# EAGLE library part NUCLEO-144 (library Nucleo-144)
Header footprint of an STM32 Nucleo 144 pin board for use in making shields for the board.
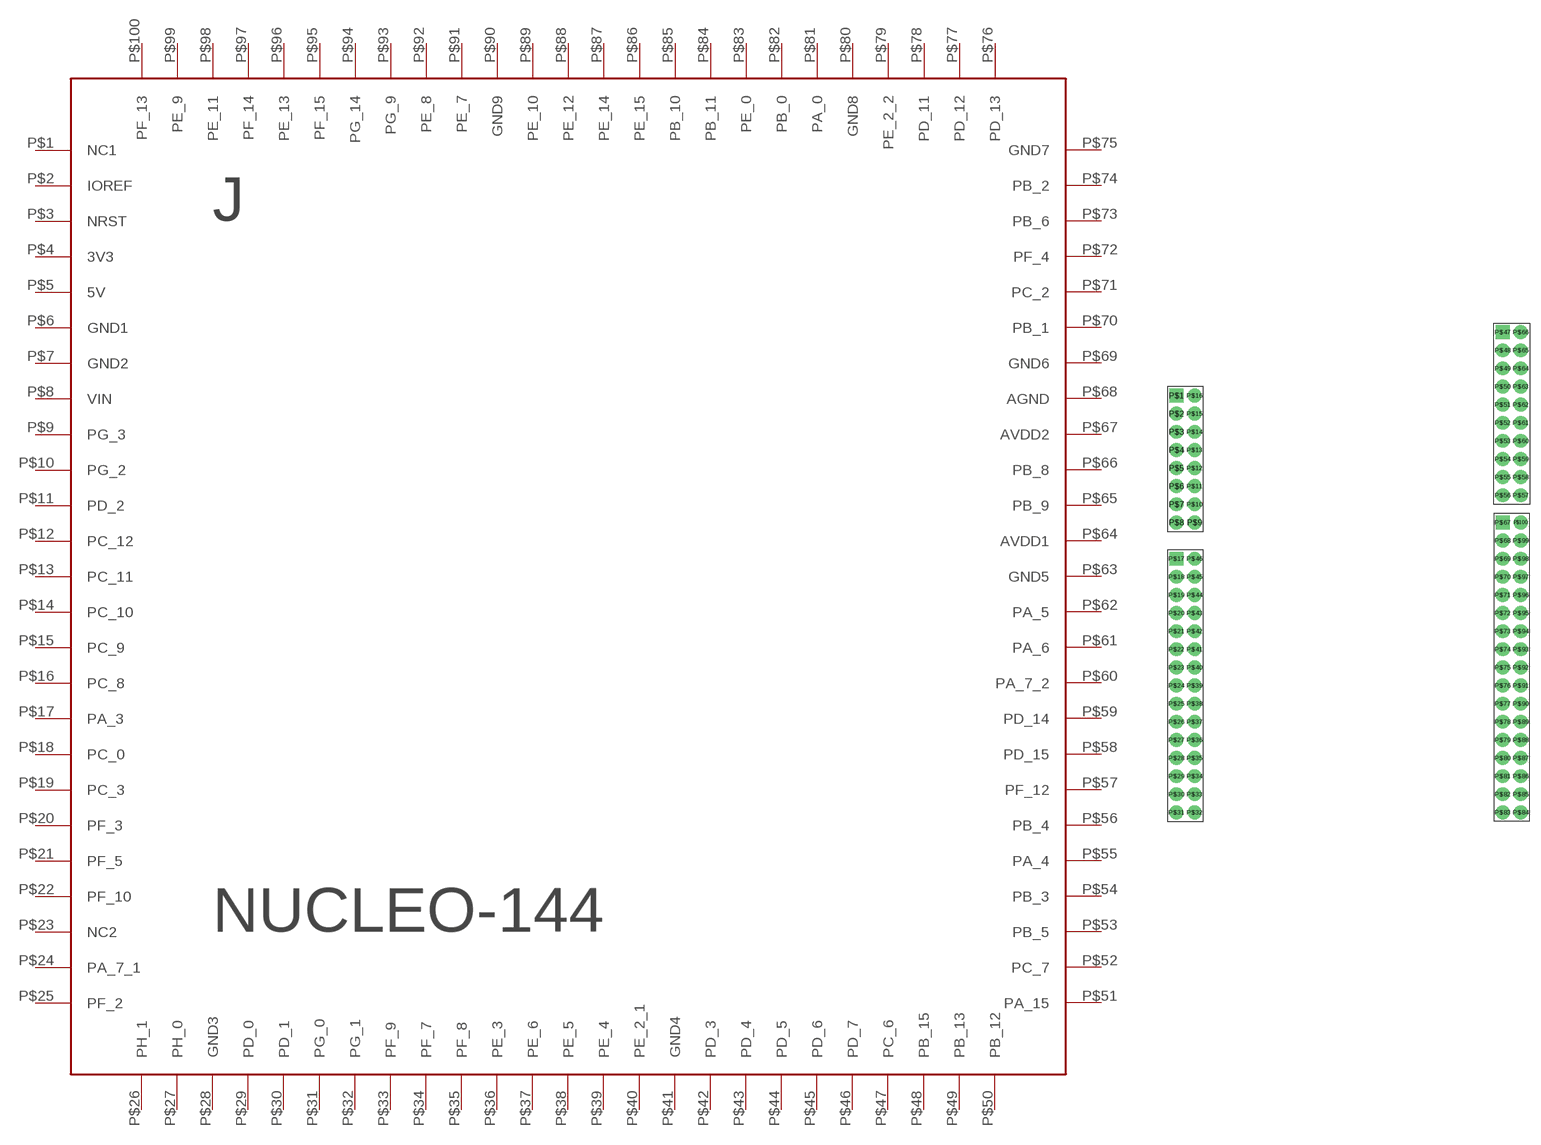
[diagram p0: symbol with the pads of NUCLEO-144; footprint NUCLEO-144]

Designator prefix J

## NUCLEO-144  [NUCLEO-144]
P$1  NC1
P$2  IOREF
P$3  NRST
P$4  3V3
P$5  5V
P$6  GND1
P$7  GND2
P$8  VIN
P$9  PG_3
P$10  PG_2
P$11  PD_2
P$12  PC_12
P$13  PC_11
P$14  PC_10
P$15  PC_9
P$16  PC_8
P$17  PA_3
P$18  PC_0
P$19  PC_3
P$20  PF_3
P$21  PF_5
P$22  PF_10
P$23  NC2
P$24  PA_7_1
P$25  PF_2
P$26  PH_1
P$27  PH_0
P$28  GND3
P$29  PD_0
P$30  PD_1
P$31  PG_0
P$32  PG_1
P$33  PF_9
P$34  PF_7
P$35  PF_8
P$36  PE_3
P$37  PE_6
P$38  PE_5
P$39  PE_4
P$40  PE_2_1
P$41  GND4
P$42  PD_3
P$43  PD_4
P$44  PD_5
P$45  PD_6
P$46  PD_7
P$47  PC_6
P$48  PB_15
P$49  PB_13
P$50  PB_12
P$51  PA_15
P$52  PC_7
P$53  PB_5
P$54  PB_3
P$55  PA_4
P$56  PB_4
P$57  PF_12
P$58  PD_15
P$59  PD_14
P$60  PA_7_2
P$61  PA_6
P$62  PA_5
P$63  GND5
P$64  AVDD1
P$65  PB_9
P$66  PB_8
P$67  AVDD2
P$68  AGND
P$69  GND6
P$70  PB_1
P$71  PC_2
P$72  PF_4
P$73  PB_6
P$74  PB_2
P$75  GND7
P$76  PD_13
P$77  PD_12
P$78  PD_11
P$79  PE_2_2
P$80  GND8
P$81  PA_0
P$82  PB_0
P$83  PE_0
P$84  PB_11
P$85  PB_10
P$86  PE_15
P$87  PE_14
P$88  PE_12
P$89  PE_10
P$90  GND9
P$91  PE_7
P$92  PE_8
P$93  PG_9
P$94  PG_14
P$95  PF_15
P$96  PE_13
P$97  PF_14
P$98  PE_11
P$99  PE_9
P$100  PF_13

## Footprint NUCLEO-144 (pad centres in mm)
Nucleo-144 Header
drill 1 pad 1.93 square: P$1 0,0; P$17 0,-22.86; P$47 45.72,8.89; P$67 45.72,-17.78
drill 1 pad 1.93: P$2 0,-2.54; P$3 0,-5.08; P$4 0,-7.62; P$5 0,-10.16; P$6 0,-12.7; P$7 0,-15.24; P$8 0,-17.78; P$9 2.54,-17.78; P$10 2.54,-15.24; P$11 2.54,-12.7; P$12 2.54,-10.16; P$13 2.54,-7.62; P$14 2.54,-5.08; P$15 2.54,-2.54; P$16 2.54,0; P$18 0,-25.4; P$19 0,-27.94; P$20 0,-30.48; P$21 0,-33.02; P$22 0,-35.56; P$23 0,-38.1; P$24 0,-40.64; P$25 0,-43.18; P$26 0,-45.72; P$27 0,-48.26; P$28 0,-50.8; P$29 0,-53.34; P$30 0,-55.88; P$31 0,-58.42; P$32 2.54,-58.42; P$33 2.54,-55.88; P$34 2.54,-53.34; P$35 2.54,-50.8; P$36 2.54,-48.26; P$37 2.54,-45.72; P$38 2.54,-43.18; P$39 2.54,-40.64; P$40 2.54,-38.1; P$41 2.54,-35.56; P$42 2.54,-33.02; P$43 2.54,-30.48; P$44 2.54,-27.94; P$45 2.54,-25.4; P$46 2.54,-22.86; P$48 45.72,6.35; P$49 45.72,3.81; P$50 45.72,1.27; P$51 45.72,-1.27; P$52 45.72,-3.81; P$53 45.72,-6.35; P$54 45.72,-8.89; P$55 45.72,-11.43; P$56 45.72,-13.97; P$57 48.26,-13.97; P$58 48.26,-11.43; P$59 48.26,-8.89; P$60 48.26,-6.35; P$61 48.26,-3.81; P$62 48.26,-1.27; P$63 48.26,1.27; P$64 48.26,3.81; P$65 48.26,6.35; P$66 48.26,8.89; P$68 45.72,-20.32; P$69 45.72,-22.86; P$70 45.72,-25.4; P$71 45.72,-27.94; P$72 45.72,-30.48; P$73 45.72,-33.02; P$74 45.72,-35.56; P$75 45.72,-38.1; P$76 45.72,-40.64; P$77 45.72,-43.18; P$78 45.72,-45.72; P$79 45.72,-48.26; P$80 45.72,-50.8; P$81 45.72,-53.34; P$82 45.72,-55.88; P$83 45.72,-58.42; P$84 48.26,-58.42; P$85 48.26,-55.88; P$86 48.26,-53.34; P$87 48.26,-50.8; P$88 48.26,-48.26; P$89 48.26,-45.72; P$90 48.26,-43.18; P$91 48.26,-40.64; P$92 48.26,-38.1; P$93 48.26,-35.56; P$94 48.26,-33.02; P$95 48.26,-30.48; P$96 48.26,-27.94; P$97 48.26,-25.4; P$98 48.26,-22.86; P$99 48.26,-20.32; P$100 48.26,-17.78